# Altium integrated library Button_6Pin_Project.IntLib: 1 symbol
Pins are listed as number, name and electrical type; pins without a type are passive.

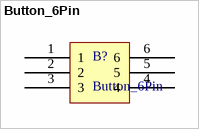
[diagram p0: symbol Button_6Pin]

## Button_6Pin
designator B?
footprint Button_6Pin_PCB
pins: 1, 2, 3, 4, 5, 6